# EAGLE library part RF_ASK_RX (library dragCustom)
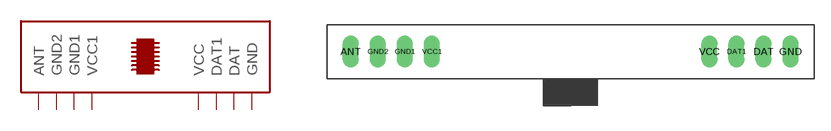
[diagram p4: symbol with the pads of RF_ASK_RX; footprint RF_ASK_RX]

Designator prefix -

## RF_ASK_RX  [RF_ASK_RX]
ANT  ANT
DAT  DAT
DAT1  DAT1
GND  GND
GND1  GND1
GND2  GND2
VCC  VCC
VCC1  VCC1

## Footprint RF_ASK_RX (pad centres in mm)
drill 1 long: ANT -20.62,0; DAT 18.08,0; DAT1 15.54,0; GND 20.62,0; GND1 -15.54,0; GND2 -18.08,0; VCC 13,0; VCC1 -13,0